# EAGLE library part BMP280 (library BMP280)
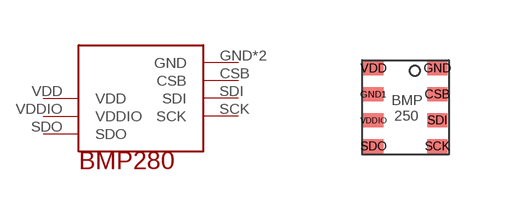
[diagram p0: symbol with the pads of BMP280; footprint BMP280]

Designator prefix -

## BMP280  [BMP280]
CSB  CSB
GND  GND
GND1  GND
SCK  SCK
SDI  SDI
SDO  SDO
VDD  VDD
VDDIO  VDDIO

## Footprint BMP280 (pad centres in mm)
smd 0.5 x 0.35: CSB 0.8,0.325; GND 0.8,0.975; GND1 -0.8,0.325; SCK 0.8,-0.975; SDI 0.8,-0.325; SDO -0.8,-0.975; VDD -0.8,0.973; VDDIO -0.8,-0.325